# EAGLE library part TL7660 (library scono)
https://www.digikey.com/product-detail/en/texas-instruments/TL7660CDR/296-21856-1-ND/1629226
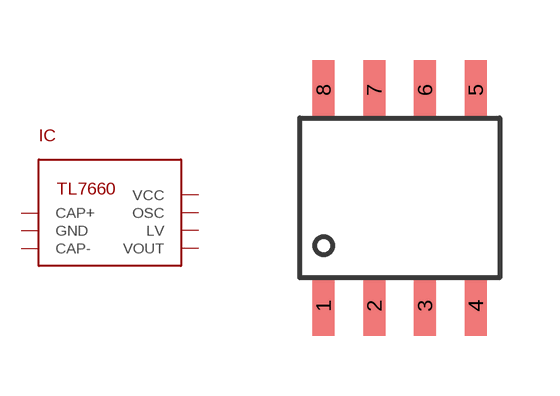
[diagram p37: symbol with the pads of 8SOICW; footprint 8SOICW]

Designator prefix IC

## TL7660  [8SOICW]
2  CAP+
3  GND
4  CAP-
5  VOUT
6  LV
7  OSC
8  VCC

## Footprint 8SOICW (pad centres in mm)
smd 0.55 x 1.5: 1 -1.905,0; 2 -0.635,0; 3 0.635,0; 4 1.905,0; 5 1.905,5.4; 6 0.635,5.4; 7 -0.635,5.4; 8 -1.905,5.4